# Altium schematic symbol library NRF_Schematic.SchLib: 16 symbols
Pins are listed as number, name and electrical type; pins without a type are passive.

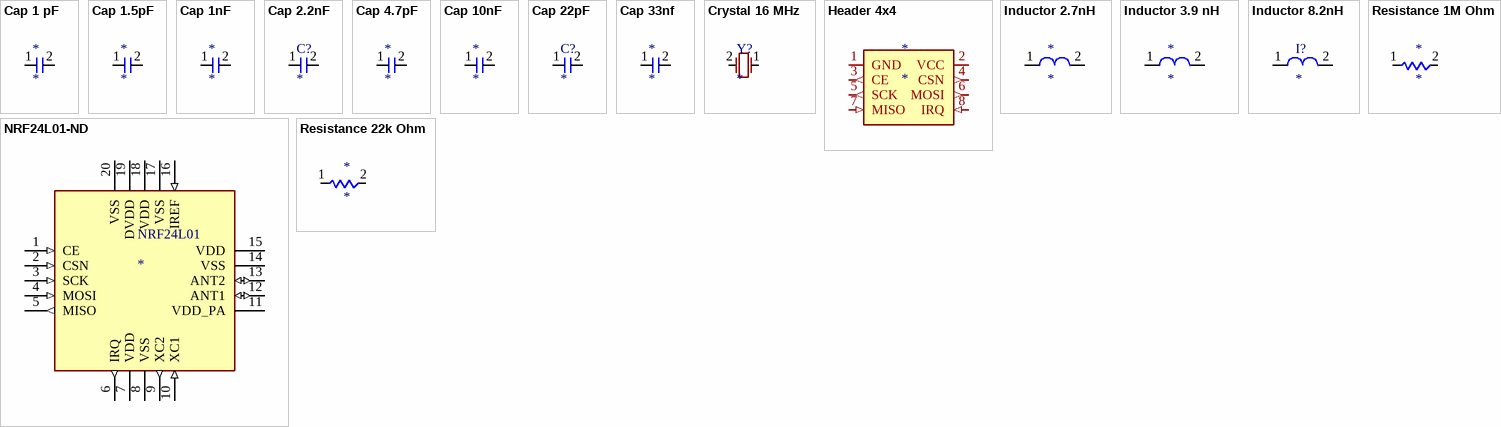
[diagram p0: symbols Cap 1 pF to Resistance 22k Ohm]

## Cap 1 pF
designator *
footprint Cap 1pF
pins: 1 Pin 1 "Pin 1 of ceramic capaciitor", 2 Pin 2 "Pin 2 of ceramic capaciitor"

## Cap 1.5pF
designator *
footprint Cap 1.5pF
pins: 1 Pin 1 "Pin 1 of ceramic capaciitor", 2 Pin 2 "Pin 2 of ceramic capaciitor"

## Cap 1nF
designator *
footprint Cap 1nF
pins: 1 Pin 1 "Pin 1 of ceramic capaciitor", 2 Pin 2 "Pin 2 of ceramic capaciitor"

## Cap 2.2nF
designator C?
footprint Cap 2.2nF
pins: 1 Pin 1 "Pin 1 of ceramic capaciitor", 2 Pin 2 "Pin 2 of ceramic capaciitor"

## Cap 4.7pF
designator *
footprint Cap 4.7 pF
pins: 1 Pin 1 "Pin 1 of ceramic capaciitor", 2 Pin 2 "Pin 2 of ceramic capaciitor"

## Cap 10nF
designator *
footprint Cap 10nF
pins: 1 Pin 1 "Pin 1 of ceramic capaciitor", 2 Pin 2 "Pin 2 of ceramic capaciitor"

## Cap 22pF
designator C?
footprint Cap 22pF
pins: 1 Pin 1 "Pin 1 of ceramic capaciitor", 2 Pin 2 "Pin 2 of ceramic capaciitor"

## Cap 33nf
designator *
footprint Cap 33nF
pins: 1 Pin 1 "Pin 1 of ceramic capaciitor", 2 Pin 2 "Pin 2 of ceramic capaciitor"

## Crystal 16 MHz
designator Y?
CRYSTAL 4.0000MHZ 12PF SMD; Part Number: J49SMH-A-G-G-K-4M0; Link: https://www.digikey.com/en/products/detail/jauch-quartz/J49SMH-A-G-G-K-4M0/10416031
footprint Crystal 16MHz (4 MHz ±30ppm Crystal 12pF 80 Ohms HC-49/US)
pins: 1 3, 2 3

## Header 4x4
designator *
footprint Header 4x4
pins: 1 GND (power), 2 VCC (power), 3 CE (out), 4 CSN (out), 5 SCK (out), 6 MOSI (out), 7 MISO (in), 8 IRQ (in)

## Inductor 2.7nH
designator *
footprint Inductor 2.7nH
pins: 1 11, 2 11

## Inductor 3.9 nH
designator *
footprint Inductor 3.9nH
pins: 1 11, 2 11

## Inductor 8.2nH
designator I?
FIXED IND 8.2NH 680MA 100MOHM SM; Part Number: AISC-0402-8N2G-T; Link: https://www.digikey.com/en/products/detail/abracon-llc/AISC-0402-8N2G-T/3059627
footprint Inductor 8.2nH (FIXED IND 8.2NH 680MA 100MOHM SM)
pins: 1 11, 2 11

## NRF24L01-ND
designator NRF24L01
IC RF TxRx Only General ISM > 1GHz 2.4GHz 20-VFQFN Exposed Pad; Link: https://www.digikey.com/en/products/detail/nordic-semiconductor-asa/NRF24L01/4691779
footprint NRF24L01-ND (IC RF TxRx Only General ISM > 1GHz 2.4GHz 20-VFQFN Exposed Pad)
pins: 1 CE (in), 2 CSN (in), 3 SCK (in), 4 MOSI (in), 5 MISO (out), 6 IRQ (out) "Power Supply Output(+1.8V) for the internal", 7 VDD (power), 8 VSS (power), 9 XC2 (out), 10 XC1 (in), 11 VDD_PA (power) "Power Supply Output(+1.8V) for the internal", 12 ANT1 (io), 13 ANT2 (io), 14 VSS (power), 15 VDD (power), 16 IREF (in) "Analog Input", 17 VSS (power), 18 VDD (power), 19 DVDD (power), 20 VSS (power)

## Resistance 1M Ohm
designator *
footprint Resistor 1 M Ohm
pins: 1 Pin 1, 2 pin 2

## Resistance 22k Ohm
designator *
footprint Resistor 22k Ohm
pins: 1 Pin 1, 2 pin 2